# EAGLE library part ADS1115 (library graftel-internal-ic)
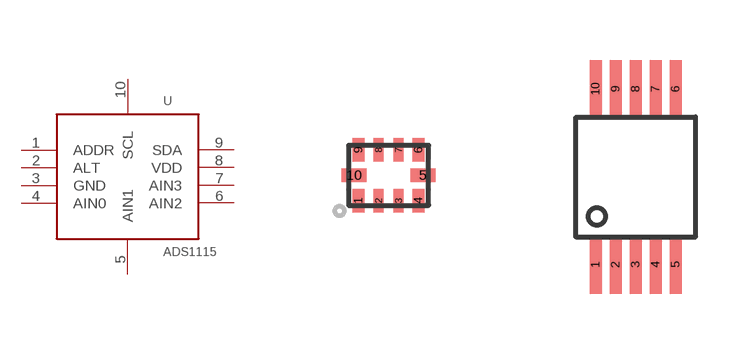
[diagram p11: symbol with the pads of 10-XFQFN; footprints 10-XFQFN, TFSOP-10]

Designator prefix U

## ADS1115-QFN-10  [10-XFQFN]
1  ADDR
2  ALT
3  GND
4  AIN0
5  AIN1
6  AIN2
7  AIN3
8  VDD
9  SDA
10  SCL

## ADS1115TFSOP-10  [TFSOP-10]
Pads as for 10-XFQFN

## Footprint 10-XFQFN (pad centres in mm)
smd 0.3 x 0.58: 1 -0.75,-0.635; 4 0.75,-0.635; 6 0.75,0.635; 9 -0.75,0.635
smd 0.25 x 0.58: 2 -0.25,-0.635; 3 0.25,-0.635; 7 0.25,0.635; 8 -0.25,0.635
smd 0.63 x 0.35: 5 0.86,0; 10 -0.86,0

## Footprint TFSOP-10 (pad centres in mm)
smd 0.3 x 1.45: 1 -1,-2.2; 2 -0.5,-2.2; 3 0,-2.2; 4 0.5,-2.2; 5 1,-2.2; 6 1,2.2; 7 0.5,2.2; 8 0,2.2; 9 -0.5,2.2; 10 -1,2.2